# Altium footprint library Tactile Switch.PcbLib: 6 footprints
Each footprint in its own frame and in the unit in brackets; x right, y up, seen from the top. Pads: shape width x height; smd on the part's side, far side on the other; paste and mask are expansions set on the pad; w line width, h text height; cw(c..) or ccw(c..) is an arc to the next point about the centre after c.
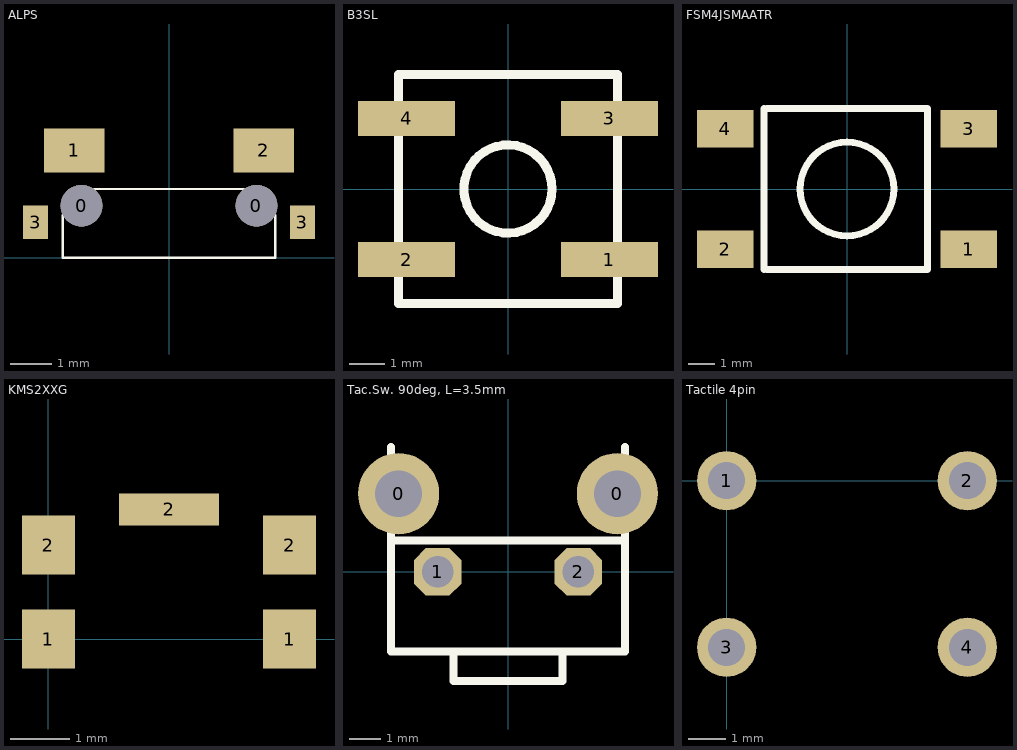
[diagram p0: the footprints below, top view; thin cyan lines are the x and y axes]

## ALPS [mm] "SKSNLAE010"
pads (6):
  round 1 hole 1: 0(-2.1,1.25) 0(2.1,1.25)
  rect 1.45x1.05 smd: 1(-2.275,2.575) 2(2.275,2.575)
  rect 0.6x0.8 smd: 3(-3.2,0.85) 3(3.2,0.85)
Top Overlay:
  lines w0.05: -2.55,1.025 -2.55,0 2.55,0 2.55,1.025 ; -1.8,1.65 1.8,1.65
3D body "EVQP44B3M.STEP": height 1.35, standoff -2.15, extent -3.1,-0.6 3.1,2.4

## B3SL [mm]
pads (4):
  rect 2.75x1 smd: 1(2.875,-2) 2(-2.875,-2) 3(2.875,2) 4(-2.875,2)
Top Overlay:
  circle w0.254: c0,0 r1.25
  lines w0.254: -3.1,-3.25 -3.1,3.25 0,3.25 3.1,3.25 3.1,-3.25 -3.1,-3.25
3D body: height 2.5, standoff 0.1, extent -3.099,-3.249 3.099,3.249
3D body: height 5.1, standoff 0.1, extent -1.249,-1.249 1.249,1.249

## FSM4JSMAATR [mm]
pads (4):
  rect 2.1x1.4 smd: 1(4.55,-2.25) 2(-4.55,-2.25) 3(4.55,2.25) 4(-4.55,2.25)
Top Overlay:
  circle w0.254: c0,0 r1.75
  lines w0.254: -3.1,-3 -3.1,3 ; -3,-3 3,-3 3,3 0,3 -3,3
3D body: height 2.5, standoff 0.1, extent -3.14,-3.08 3.059,3.06
3D body: height 5.1, standoff 0.1, extent -1.249,-1.249 1.249,1.249

## KMS2XXG [mm] "KMS surface mount side push small button"
height 1.42
pads (5):
  rect 0.9x1 smd: 1(0,0) 1(4.1,0) 2(0,1.6) 2(4.1,1.6)
  rect 1.7x0.55 smd: 2(2.05,2.205)
3D body "KMS2XXG.STEP": height 1.42, standoff -0.02, extent -0.25,-1.35 4.35,2.2

## Tac.Sw. 90deg, L=3.5mm [mm] "SKHHLMA010"
pads (4):
  round 2.6 hole 1.5: 0(-3.5,2.5) 0(3.5,2.5)
  oct 1.524x1.524 hole 1: 1(-2.25,0) 2(2.25,0)
Top Overlay:
  lines w0.254: -3.75,1 3.75,1 ; -3.75,4 -3.75,-2.55 3.75,-2.55 3.75,4 ; -1.75,-2.55 -1.75,-3.5 1.75,-3.5 1.75,-2.55
3D body "Tactile_switch_Side_L=3.5.STEP": height 7.8, standoff -3.5, extent -4.098,-3.664 4.1,3.836

## Tactile 4pin [mm]
pads (4):
  round 1.6 hole 1: 1(0,0) 2(6.5,0) 3(0,-4.5) 4(6.5,-4.5)
3D body "skhhbv.stp": height 7, standoff -3.5, extent -0.7,-5.35 7.2,0.85